# Altium schematic symbol library SIM800L Module.SchLib: 1 symbol
Pins are listed as number, name and electrical type; pins without a type are passive.

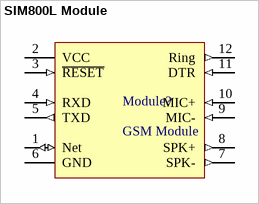
[diagram p0: symbol SIM800L Module]

## SIM800L Module
designator Module?, comment GSM Module
Part Number: SIM800L Module; Additionner: M.Moghimi; Adding Time: 1400/06/19
footprint Sim800L Module (Sim800L GSM Module)
pins: 1 Net (io) "NET is a pin where you can solder Helical Antenna provided along with the module.", 2 VCC (power) "VCC supplies power for the module. This can be anywhere from 3.4V to 4.4 volts. Remember connecting it to 5V pin will likely destroy your module! It doesn’t even run on 3.3 V! An external power source like Li-Po battery or DC-DC buck converters rated 3.7V 2A would work.", 3 ~{RESET} (in) "RST (Reset) is a hard reset pin. If you absolutely got the module in a bad space, pull this pin low for 100ms to perform a hard reset.", 4 RXD (in) "RxD (Receiver) pin is used for serial communication.", 5 TXD (out) "TxD (Transmitter) pin is used for serial communication.", 6 GND (power) "GND is the Ground Pin and needs to be connected to GND", 7 SPK- (out) "SPK± is a differential speaker interface. The two pins of a speaker can be tied directly to these two pins.", 8 SPK+ (out) "SPK± is a differential speaker interface. The two pins of a speaker can be tied directly to these two pins.", 9 MIC- (in) "MIC± is a differential microphone input. The two microphone pins can be connected directly to these pins.", 10 MIC+ (in) "MIC± is a differential microphone input. The two microphone pins can be connected directly to these pins.", 11 DTR (in) "DTR pin activates/deactivates sleep mode. Pulling it HIGH will put module in sleep mode, disabling serial communication. Pulling it LOW will wake the module up.", 12 Ring (out) "RING pin acts as a Ring Indicator. It is basically the ‘interrupt’ out pin from the module. It is by default high and will pulse low for 120ms when a call is received. It can also be configured to pulse when an SMS is received."